# EAGLE library part WE-D-SUB_THT_TH_210111003 (library Wurth_Signal & Communications_WE-D-SUB)
WE-D-SUB Filter Solder Pin Straight Characteristics Standard type filtered with 1000 pF High attenuation: max. ≥ 40 dB @ 180 MHz Choice of UNC 4/40 or through hole Rated voltage: 100 VDC Rated current @ 20 ºC: 5 A Withstand voltage: 250 VRMS Insulation resistance: min. 1000 MΩ Operating temperature: –55 ºC to +125 ºC Applications Filtering of interfaces External connection to -printer -sensor -display Device and Package Name Note: TH means Size Through Hole <https://katalog.we-online.de/media/images/v2/o14707v209%20Family_D-SUB-Filter_mit_geradem_Loetstift.jpg> Details see: https://katalog.we-online.de/en/pbs/D-SUB-FILTER-STRAIGHT Updated by Ella Wu 2019-09-10 2019(C) Wurth Elektronik
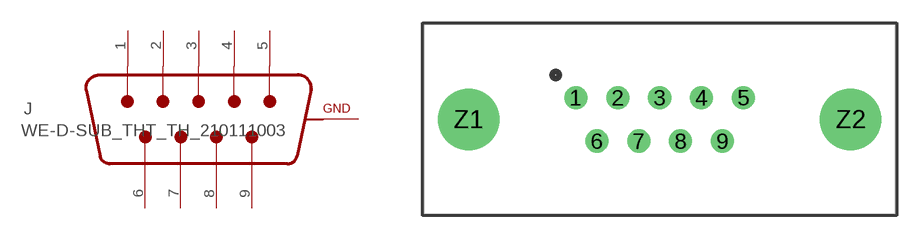
[diagram p39: symbol with the pads of WE-D-SUB_THT_TH_210111003; footprint WE-D-SUB_THT_TH_210111003]

Designator prefix J

## WE-D-SUB_THT_TH_210111003 (DATASHEET-URL: https://katalog.we-online.de/pbs/datasheet/210111003.pdf; MOUNT: THT; PART-NUMBER: 210111003; POLES: 9; TYPE: Male)  [WE-D-SUB_THT_TH_210111003]
1  1  pas
2  2  pas
3  3  pas
4  4  pas
5  5  pas
6  6  pas
7  7  pas
8  8  pas
9  9  pas
Z1  GND  pwr
Z2  GND  pwr

## Footprint WE-D-SUB_THT_TH_210111003 (pad centres in mm)
WE-D-SUB Filter Solder Pin Straight 9 Poles , Male TH means Size Through Hole
drill 1: 1 -5.49,1.42; 2 -2.74,1.42; 3 0,1.42; 4 2.74,1.42; 5 5.49,1.42; 6 -4.11,-1.42; 7 -1.37,-1.42; 8 1.37,-1.42; 9 4.11,-1.42
drill 3: Z1 -12.5,0; Z2 12.5,0